# EAGLE library part GE_STINGRAY_H (library motocontro_rev_4)
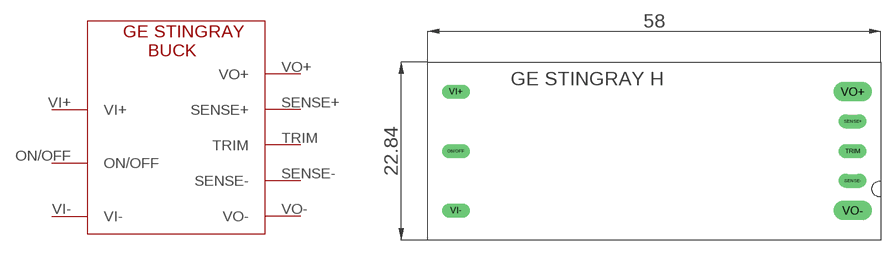
[diagram p1: symbol with the pads of GE_STINGRAY; footprint GE_STINGRAY]

Designator prefix -

## GE_STINGRAY_H  [GE_STINGRAY]
ON/OFF  ON/OFF
SENSE+  SENSE+
SENSE-  SENSE-
TRIM  TRIM
VI+  VI+
VI-  VI-
VO+  VO+
VO-  VO-

## Footprint GE_STINGRAY (pad centres in mm)
drill 1.2 long: ON/OFF 0,7.62; SENSE+ 50.8,11.43; SENSE- 50.8,3.81; TRIM 50.8,7.62; VI+ 0,15.24; VI- 0,0
drill 1.65 long: VO+ 50.8,15.24; VO- 50.8,0